# Altium footprint library TO-3.PcbLib: 1 footprints
Each footprint in its own frame and in the unit in brackets; x right, y up, seen from the top. Pads: shape width x height; smd on the part's side, far side on the other; paste and mask are expansions set on the pad; w line width, h text height; cw(c..) or ccw(c..) is an arc to the next point about the centre after c.
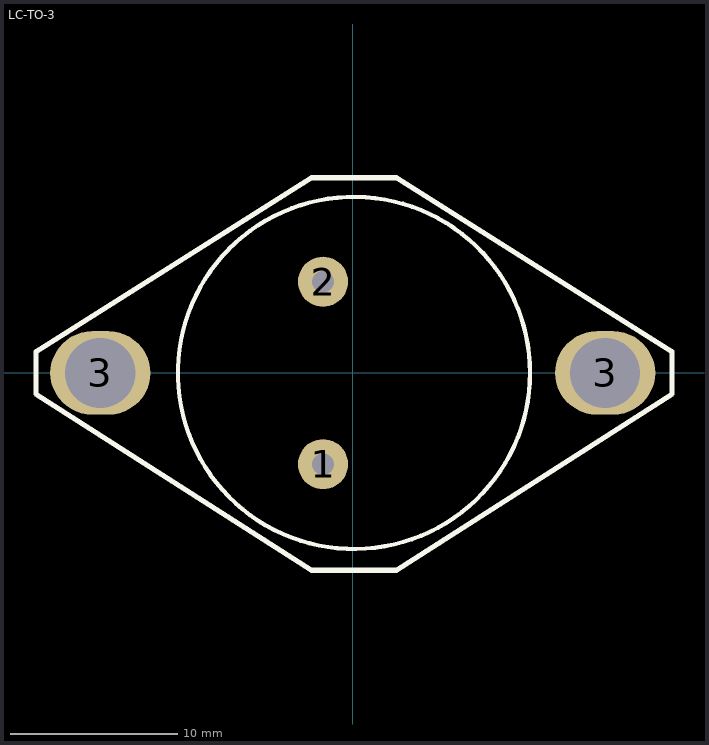
[diagram p0: the footprint, top view; thin cyan lines are the x and y axes]

## LC-TO-3 [mm]
pads (4):
  round 3 hole 1.3: 1(-1.778,-5.461) 2(-1.778,5.461)
  oval 6x5 hole 4.2: 3(-15.113,0) 3(15.113,0)
Top Overlay:
  circle w0.254: c0.076,0 r10.541
  lines w0.305: -18.974,-1.27 -2.464,-11.811 2.616,-11.811 19.126,-1.27 19.126,1.27 2.616,11.684 -2.464,11.684 -18.974,1.27 -18.974,-1.27
3D body "User Library-TO-3_Long.STEP": height 8.5, standoff -12, extent -19.757,-13.089 19.833,13.089